# Altium schematic symbol library control.SchLib: 2 symbols
Pins are listed as number, name and electrical type; pins without a type are passive.

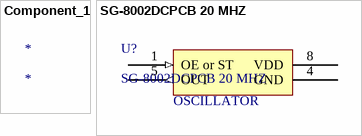
[diagram p0: symbols Component_1 to SG-8002DCPCB 20 MHZ]

## Component_1
designator *

## SG-8002DCPCB 20 MHZ
designator U?
OSCILLATOR SG-8002DCPCB 20 MHZ 5V; Manufacturer: EPSON
footprint DIP-8 (DIP, 8-Pin, Row Spacing 7.62 mm, Pitch 2.54 mm)
pins: 1 OE or ST (in), 4 GND (power), 5 OUT (out), 8 VDD (power)
text: OSCILLATOR